# EAGLE library part 61729-1011BLF (library 61729-1011BLF)
USB-B (USB TYPE-B) USB 2.0 Receptacle Connector 4 Position Through Hole, Right Angle Source: Datasheet <https://www.amphenol-cs.com/media/wysiwyg/files/drawing/61729.pdf>
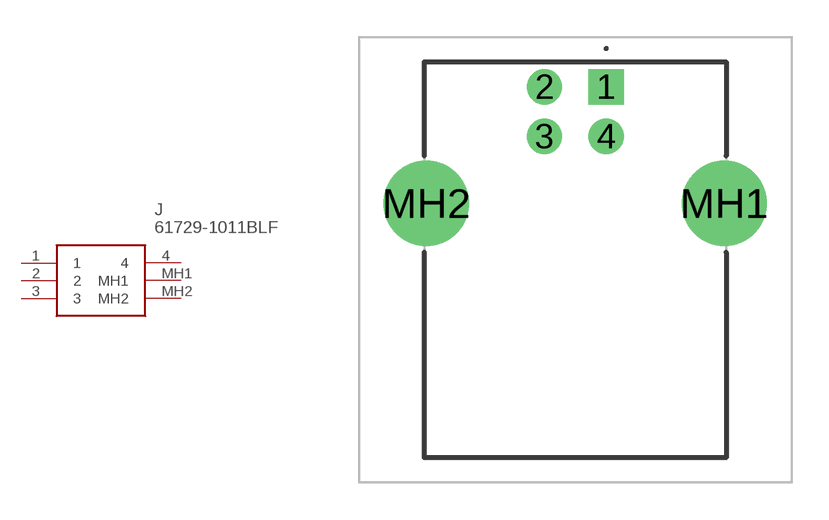
[diagram p0: symbol with the pads of 617291011BLF; footprint 617291011BLF]

Designator prefix J

## 61729-1011BLF (Description: USB-B (USB TYPE-B) USB 2.0 Receptacle Connector 4 Position Through Hole, Right Angle; Height: 11.5mm; Manufacturer_Name: Amphenol Communications Solutions; Manufacturer_Part_Number: 61729-1011BLF; Mouser_Part_Number: 649-61729-1011BLF; Mouser_Price-Stock: https://www.mouser.co.uk/ProductDetail/Amphenol-FCI/61729-1011BLF?qs=zxzm42eeoPNCjU%2FpHflioA%3D%3D)  [617291011BLF]
1  1
2  2
3  3
4  4
MH1  MH1
MH2  MH2

## Footprint 617291011BLF (pad centres in mm)
61729-1011BLF
drill 0.92 pad 1.431 square: 1 0,0
drill 0.92 pad 1.431: 2 -2.5,0; 3 -2.5,-2; 4 0,-2
drill 2.3 pad 3.45: MH1 4.77,-4.71; MH2 -7.27,-4.71